# Altium footprint library R_AXIAL_20_0.6.PcbLib: 1 footprints
Each footprint in its own frame and in the unit in brackets; x right, y up, seen from the top. Pads: shape width x height; smd on the part's side, far side on the other; paste and mask are expansions set on the pad; w line width, h text height; cw(c..) or ccw(c..) is an arc to the next point about the centre after c.
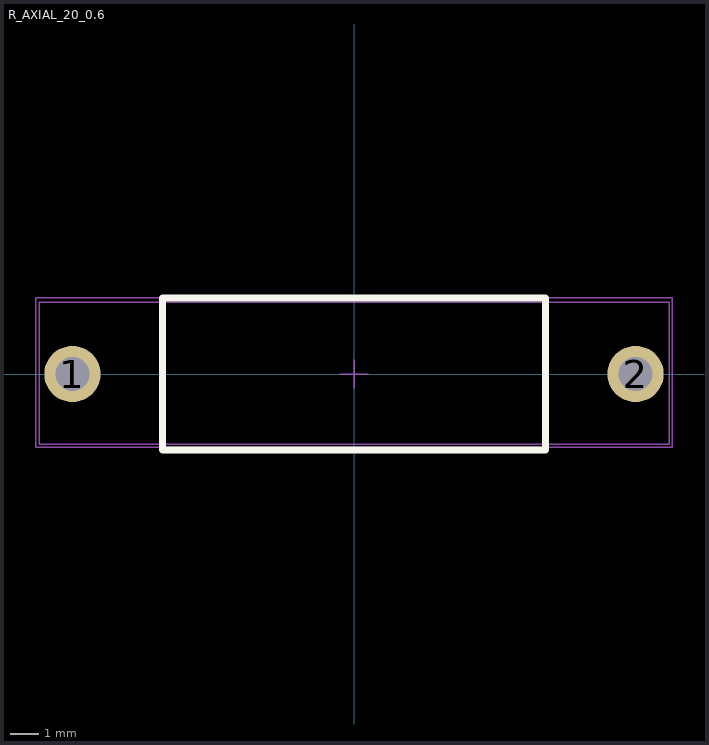
[diagram p0: the footprint, top view; thin cyan lines are the x and y axes]

## R_AXIAL_20_0.6 [mm]
pads (2):
  round 2 hole 1.2: 1(-10,0) 2(10,0)
Top Overlay:
  lines w0.254: -6.8,-2.7 6.8,-2.7 6.8,2.7 -6.8,2.7 -6.8,-2.7
Assembly Top:
  lines w0.05: -0.5,0 0.5,0 ; 0,-0.5 0,0.5 ; -11.176,-2.5 11.2,-2.5 11.2,2.54 -11.176,2.54 -11.176,-2.5
Courtyard Top:
  lines w0.05: -11.3,-2.6 11.3,-2.6 11.3,2.7 -11.3,2.7 -11.3,-2.6
3D body "User Library-ResD5L13P20.step": height 7, standoff -2, extent -10.4,-2.5 10.4,2.5